# Altium integrated library ST Interface Display Driver.IntLib: 36 symbols
Pins are listed as number, name and electrical type; pins without a type are passive.

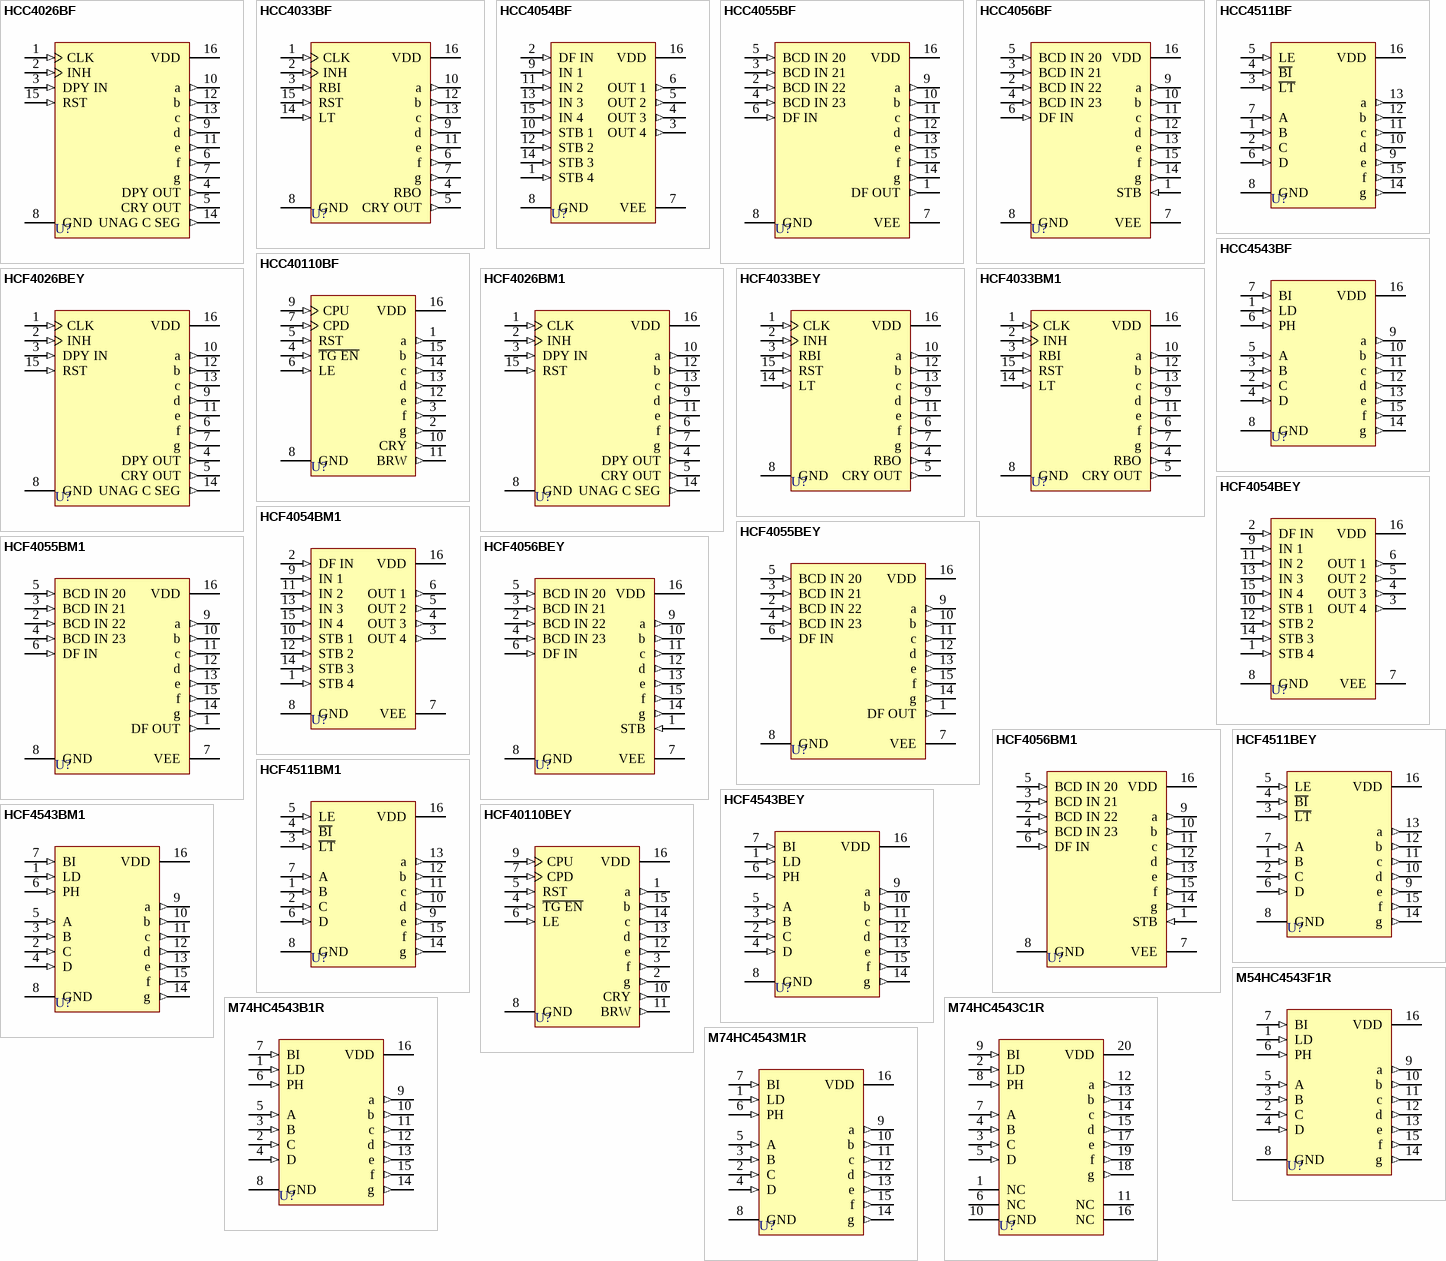
[diagram p0: symbols HCC4026BF to M74HC4543M1R]

## HCC4026BF
designator U?
Decade Counter / Divider with Decoded 7-Segment Display Output; Published: 8-Jun-2000; LatestRevisionDate: 17-Jul-2002; LatestRevisionNote: Re-released for DXP Platform.; DatasheetDocument: Sep-1988; PackageDocument: Apr-1996; PackageReference: DIP16; Publisher: Altium Limited
footprint DIP16 (DIP; 16 Leads; Row Spacing 7.62 mm; Pitch 2.54 mm)
pins: 1 CLK (in), 2 INH (in), 3 DPY IN (in), 4 DPY OUT (out), 5 CRY OUT (out), 6 f (out), 7 g (out), 8 GND (power), 9 d (out), 10 a (out), 11 e (out), 12 b (out), 13 c (out), 14 UNAG C SEG (out), 15 RST (in), 16 VDD (power)

## HCC4033BF
designator U?
Decade Counter / Divider with Decoded 7-Segment Display Output; Published: 8-Jun-2000; LatestRevisionDate: 17-Jul-2002; LatestRevisionNote: Re-released for DXP Platform.; DatasheetDocument: Sep-1988; PackageDocument: Apr-1996; PackageReference: DIP16; Publisher: Altium Limited
footprint DIP16 (DIP; 16 Leads; Row Spacing 7.62 mm; Pitch 2.54 mm)
pins: 1 CLK (in), 2 INH (in), 3 RBI (in), 4 RBO (out), 5 CRY OUT (out), 6 f (out), 7 g (out), 8 GND (power), 9 d (out), 10 a (out), 11 e (out), 12 b (out), 13 c (out), 14 LT (in), 15 RST (in), 16 VDD (power)

## HCC4054BF
designator U?
Liquid-Crystal Display Driver; Published: 8-Jun-2000; LatestRevisionDate: 17-Jul-2002; LatestRevisionNote: Re-released for DXP Platform.; DatasheetDocument: Mar-1999; PackageDocument: Apr-1996; PackageReference: DIP16; Publisher: Altium Limited
footprint DIP16 (DIP; 16 Leads; Row Spacing 7.62 mm; Pitch 2.54 mm)
pins: 1 STB 4 (in), 2 DF IN (in), 3 OUT 4 (out), 4 OUT 3 (out), 5 OUT 2 (out), 6 OUT 1 (out), 7 VEE (power), 8 GND (power), 9 IN 1 (in), 10 STB 1 (in), 11 IN 2 (in), 12 STB 2 (in), 13 IN 3 (in), 14 STB 3 (in), 15 IN 4 (in), 16 VDD (power)

## HCC4055BF
designator U?
Liquid-Crystal Display Driver; Published: 8-Jun-2000; LatestRevisionDate: 17-Jul-2002; LatestRevisionNote: Re-released for DXP Platform.; DatasheetDocument: Mar-1999; PackageDocument: Apr-1996; PackageReference: DIP16; Publisher: Altium Limited
footprint DIP16 (DIP; 16 Leads; Row Spacing 7.62 mm; Pitch 2.54 mm)
pins: 1 DF OUT (out), 2 BCD IN 22 (in), 3 BCD IN 21 (in), 4 BCD IN 23 (in), 5 BCD IN 20 (in), 6 DF IN (in), 7 VEE (power), 8 GND (power), 9 a (out), 10 b (out), 11 c (out), 12 d (out), 13 e (out), 14 g (out), 15 f (out), 16 VDD (power)

## HCC4056BF
designator U?
Liquid-Crystal Display Driver; Published: 8-Jun-2000; LatestRevisionDate: 17-Jul-2002; LatestRevisionNote: Re-released for DXP Platform.; DatasheetDocument: Mar-1999; PackageDocument: Apr-1996; PackageReference: DIP16; Publisher: Altium Limited
footprint DIP16 (DIP; 16 Leads; Row Spacing 7.62 mm; Pitch 2.54 mm)
pins: 1 STB (in), 2 BCD IN 22 (in), 3 BCD IN 21 (in), 4 BCD IN 23 (in), 5 BCD IN 20 (in), 6 DF IN (in), 7 VEE (power), 8 GND (power), 9 a (out), 10 b (out), 11 c (out), 12 d (out), 13 e (out), 14 g (out), 15 f (out), 16 VDD (power)

## HCC4511BF
designator U?
Liquid-Crystal Display Driver; Published: 8-Jun-2000; LatestRevisionDate: 17-Jul-2002; LatestRevisionNote: Re-released for DXP Platform.; DatasheetDocument: Mar-1999; PackageDocument: Apr-1996; PackageReference: DIP16; Publisher: Altium Limited
footprint DIP16 (DIP; 16 Leads; Row Spacing 7.62 mm; Pitch 2.54 mm)
simulation model HCC4511 (SIMCODE)
pins: 1 B (in), 2 C (in), 3 ~{LT} (in), 4 ~{BI} (in), 5 LE (in), 6 D (in), 7 A (in), 8 GND (power), 9 e (out), 10 d (out), 11 c (out), 12 b (out), 13 a (out), 14 g (out), 15 f (out), 16 VDD (power)

## HCC4543BF
designator U?
Liquid-Crystal Display Driver; Published: 8-Jun-2000; LatestRevisionDate: 17-Jul-2002; LatestRevisionNote: Re-released for DXP Platform.; DatasheetDocument: Mar-1999; PackageDocument: Apr-1996; PackageReference: DIP16; Publisher: Altium Limited
footprint DIP16 (DIP; 16 Leads; Row Spacing 7.62 mm; Pitch 2.54 mm)
simulation model HCC4543 (SIMCODE)
pins: 1 LD (in), 2 C (in), 3 B (in), 4 D (in), 5 A (in), 6 PH (in), 7 BI (in), 8 GND (power), 9 a (out), 10 b (out), 11 c (out), 12 d (out), 13 e (out), 14 g (out), 15 f (out), 16 VDD (power)

## HCC40110BF
designator U?
Decade Up-Down Counter / Decoder / Latch / Driver; Published: 8-Jun-2000; LatestRevisionDate: 17-Jul-2002; LatestRevisionNote: Re-released for DXP Platform.; DatasheetDocument: Sep-1988; PackageDocument: Apr-1996; PackageReference: DIP16; Publisher: Altium Limited
footprint DIP16 (DIP; 16 Leads; Row Spacing 7.62 mm; Pitch 2.54 mm)
pins: 1 a (out), 2 g (out), 3 f (out), 4 ~{TG EN} (in), 5 RST (in), 6 LE (in), 7 CPD (in), 8 GND (power), 9 CPU (in), 10 CRY (out), 11 BRW (out), 12 e (out), 13 d (out), 14 c (out), 15 b (out), 16 VDD (power)

## HCF4026BEY
designator U?
Decade Counter / Divider with Decoded 7-Segment Display Output; Published: 8-Jun-2000; LatestRevisionDate: 17-Jul-2002; LatestRevisionNote: Re-released for DXP Platform.; DatasheetDocument: Sep-1988; PackageDocument: Apr-1996; PackageReference: DIP16; Publisher: Altium Limited
footprint DIP16 (DIP; 16 Leads; Row Spacing 7.62 mm; Pitch 2.54 mm)
pins: 1 CLK (in), 2 INH (in), 3 DPY IN (in), 4 DPY OUT (out), 5 CRY OUT (out), 6 f (out), 7 g (out), 8 GND (power), 9 d (out), 10 a (out), 11 e (out), 12 b (out), 13 c (out), 14 UNAG C SEG (out), 15 RST (in), 16 VDD (power)

## HCF4026BM1
designator U?
Decade Counter / Divider with Decoded 7-Segment Display Output; Published: 8-Jun-2000; LatestRevisionDate: 17-Jul-2002; LatestRevisionNote: Re-released for DXP Platform.; DatasheetDocument: Sep-1988; PackageDocument: May-1998; PackageReference: SO16; Publisher: Altium Limited
footprint SO16 (Small Outline; 16 Leads; Body Width 3.9 mm; Pitch 1.27 mm)
pins: 1 CLK (in), 2 INH (in), 3 DPY IN (in), 4 DPY OUT (out), 5 CRY OUT (out), 6 f (out), 7 g (out), 8 GND (power), 9 d (out), 10 a (out), 11 e (out), 12 b (out), 13 c (out), 14 UNAG C SEG (out), 15 RST (in), 16 VDD (power)

## HCF4033BEY
designator U?
Decade Counter / Divider with Decoded 7-Segment Display Output; Published: 8-Jun-2000; LatestRevisionDate: 17-Jul-2002; LatestRevisionNote: Re-released for DXP Platform.; DatasheetDocument: Sep-1988; PackageDocument: Apr-1996; PackageReference: DIP16; Publisher: Altium Limited
footprint DIP16 (DIP; 16 Leads; Row Spacing 7.62 mm; Pitch 2.54 mm)
pins: 1 CLK (in), 2 INH (in), 3 RBI (in), 4 RBO (out), 5 CRY OUT (out), 6 f (out), 7 g (out), 8 GND (power), 9 d (out), 10 a (out), 11 e (out), 12 b (out), 13 c (out), 14 LT (in), 15 RST (in), 16 VDD (power)

## HCF4033BM1
designator U?
Decade Counter / Divider with Decoded 7-Segment Display Output; Published: 8-Jun-2000; LatestRevisionDate: 17-Jul-2002; LatestRevisionNote: Re-released for DXP Platform.; DatasheetDocument: Sep-1988; PackageDocument: May-1998; PackageReference: SO16; Publisher: Altium Limited
footprint SO16 (Small Outline; 16 Leads; Body Width 3.9 mm; Pitch 1.27 mm)
pins: 1 CLK (in), 2 INH (in), 3 RBI (in), 4 RBO (out), 5 CRY OUT (out), 6 f (out), 7 g (out), 8 GND (power), 9 d (out), 10 a (out), 11 e (out), 12 b (out), 13 c (out), 14 LT (in), 15 RST (in), 16 VDD (power)

## HCF4054BEY
designator U?
Liquid-Crystal Display Driver; Published: 8-Jun-2000; LatestRevisionDate: 17-Jul-2002; LatestRevisionNote: Re-released for DXP Platform.; DatasheetDocument: Mar-1999; PackageDocument: May-1998; PackageReference: SO16; Publisher: Altium Limited
footprint SO16 (Small Outline; 16 Leads; Body Width 3.9 mm; Pitch 1.27 mm)
pins: 1 STB 4 (in), 2 DF IN (in), 3 OUT 4 (out), 4 OUT 3 (out), 5 OUT 2 (out), 6 OUT 1 (out), 7 VEE (power), 8 GND (power), 9 IN 1 (in), 10 STB 1 (in), 11 IN 2 (in), 12 STB 2 (in), 13 IN 3 (in), 14 STB 3 (in), 15 IN 4 (in), 16 VDD (power)

## HCF4054BM1
designator U?
Liquid-Crystal Display Driver; Published: 8-Jun-2000; LatestRevisionDate: 17-Jul-2002; LatestRevisionNote: Re-released for DXP Platform.; DatasheetDocument: Mar-1999; PackageDocument: May-1998; PackageReference: SO16; Publisher: Altium Limited
footprint SO16 (Small Outline; 16 Leads; Body Width 3.9 mm; Pitch 1.27 mm)
pins: 1 STB 4 (in), 2 DF IN (in), 3 OUT 4 (out), 4 OUT 3 (out), 5 OUT 2 (out), 6 OUT 1 (out), 7 VEE (power), 8 GND (power), 9 IN 1 (in), 10 STB 1 (in), 11 IN 2 (in), 12 STB 2 (in), 13 IN 3 (in), 14 STB 3 (in), 15 IN 4 (in), 16 VDD (power)

## HCF4055BEY
designator U?
Liquid-Crystal Display Driver; Published: 8-Jun-2000; LatestRevisionDate: 17-Jul-2002; LatestRevisionNote: Re-released for DXP Platform.; DatasheetDocument: Mar-1999; PackageDocument: May-1998; PackageReference: SO16; Publisher: Altium Limited
footprint SO16 (Small Outline; 16 Leads; Body Width 3.9 mm; Pitch 1.27 mm)
pins: 1 DF OUT (out), 2 BCD IN 22 (in), 3 BCD IN 21 (in), 4 BCD IN 23 (in), 5 BCD IN 20 (in), 6 DF IN (in), 7 VEE (power), 8 GND (power), 9 a (out), 10 b (out), 11 c (out), 12 d (out), 13 e (out), 14 g (out), 15 f (out), 16 VDD (power)

## HCF4055BM1
designator U?
Liquid-Crystal Display Driver; Published: 8-Jun-2000; LatestRevisionDate: 17-Jul-2002; LatestRevisionNote: Re-released for DXP Platform.; DatasheetDocument: Mar-1999; PackageDocument: May-1998; PackageReference: SO16; Publisher: Altium Limited
footprint SO16 (Small Outline; 16 Leads; Body Width 3.9 mm; Pitch 1.27 mm)
pins: 1 DF OUT (out), 2 BCD IN 22 (in), 3 BCD IN 21 (in), 4 BCD IN 23 (in), 5 BCD IN 20 (in), 6 DF IN (in), 7 VEE (power), 8 GND (power), 9 a (out), 10 b (out), 11 c (out), 12 d (out), 13 e (out), 14 g (out), 15 f (out), 16 VDD (power)

## HCF4056BEY
designator U?
Liquid-Crystal Display Driver; Published: 8-Jun-2000; LatestRevisionDate: 17-Jul-2002; LatestRevisionNote: Re-released for DXP Platform.; DatasheetDocument: Mar-1999; PackageDocument: Apr-1996; PackageReference: DIP16; Publisher: Altium Limited
footprint DIP16 (DIP; 16 Leads; Row Spacing 7.62 mm; Pitch 2.54 mm)
pins: 1 STB (in), 2 BCD IN 22 (in), 3 BCD IN 21 (in), 4 BCD IN 23 (in), 5 BCD IN 20 (in), 6 DF IN (in), 7 VEE (power), 8 GND (power), 9 a (out), 10 b (out), 11 c (out), 12 d (out), 13 e (out), 14 g (out), 15 f (out), 16 VDD (power)

## HCF4056BM1
designator U?
Liquid-Crystal Display Driver; Published: 8-Jun-2000; LatestRevisionDate: 17-Jul-2002; LatestRevisionNote: Re-released for DXP Platform.; DatasheetDocument: Mar-1999; PackageDocument: May-1998; PackageReference: SO16; Publisher: Altium Limited
footprint SO16 (Small Outline; 16 Leads; Body Width 3.9 mm; Pitch 1.27 mm)
pins: 1 STB (in), 2 BCD IN 22 (in), 3 BCD IN 21 (in), 4 BCD IN 23 (in), 5 BCD IN 20 (in), 6 DF IN (in), 7 VEE (power), 8 GND (power), 9 a (out), 10 b (out), 11 c (out), 12 d (out), 13 e (out), 14 g (out), 15 f (out), 16 VDD (power)

## HCF4511BEY
designator U?
Liquid-Crystal Display Driver; Published: 8-Jun-2000; LatestRevisionDate: 17-Jul-2002; LatestRevisionNote: Re-released for DXP Platform.; DatasheetDocument: Mar-1999; PackageDocument: Apr-1996; PackageReference: DIP16; Publisher: Altium Limited
footprint DIP16 (DIP; 16 Leads; Row Spacing 7.62 mm; Pitch 2.54 mm)
simulation model HCF4511 (SIMCODE)
pins: 1 B (in), 2 C (in), 3 ~{LT} (in), 4 ~{BI} (in), 5 LE (in), 6 D (in), 7 A (in), 8 GND (power), 9 e (out), 10 d (out), 11 c (out), 12 b (out), 13 a (out), 14 g (out), 15 f (out), 16 VDD (power)

## HCF4511BM1
designator U?
Liquid-Crystal Display Driver; Published: 8-Jun-2000; LatestRevisionDate: 17-Jul-2002; LatestRevisionNote: Re-released for DXP Platform.; DatasheetDocument: Mar-1999; PackageDocument: May-1998; PackageReference: SO16; Publisher: Altium Limited
footprint SO16 (Small Outline; 16 Leads; Body Width 3.9 mm; Pitch 1.27 mm)
simulation model HCF4511 (SIMCODE)
pins: 1 B (in), 2 C (in), 3 ~{LT} (in), 4 ~{BI} (in), 5 LE (in), 6 D (in), 7 A (in), 8 GND (power), 9 e (out), 10 d (out), 11 c (out), 12 b (out), 13 a (out), 14 g (out), 15 f (out), 16 VDD (power)

## HCF4543BEY
designator U?
Liquid-Crystal Display Driver; Published: 8-Jun-2000; LatestRevisionDate: 17-Jul-2002; LatestRevisionNote: Re-released for DXP Platform.; DatasheetDocument: Mar-1999; PackageDocument: Apr-1996; PackageReference: DIP16; Publisher: Altium Limited
footprint DIP16 (DIP; 16 Leads; Row Spacing 7.62 mm; Pitch 2.54 mm)
simulation model HCF4543 (SIMCODE)
pins: 1 LD (in), 2 C (in), 3 B (in), 4 D (in), 5 A (in), 6 PH (in), 7 BI (in), 8 GND (power), 9 a (out), 10 b (out), 11 c (out), 12 d (out), 13 e (out), 14 g (out), 15 f (out), 16 VDD (power)

## HCF4543BM1
designator U?
Liquid-Crystal Display Driver; Published: 8-Jun-2000; LatestRevisionDate: 17-Jul-2002; LatestRevisionNote: Re-released for DXP Platform.; DatasheetDocument: Mar-1999; PackageDocument: May-1998; PackageReference: SO16; Publisher: Altium Limited
footprint SO16 (Small Outline; 16 Leads; Body Width 3.9 mm; Pitch 1.27 mm)
simulation model HCF4543 (SIMCODE)
pins: 1 LD (in), 2 C (in), 3 B (in), 4 D (in), 5 A (in), 6 PH (in), 7 BI (in), 8 GND (power), 9 a (out), 10 b (out), 11 c (out), 12 d (out), 13 e (out), 14 g (out), 15 f (out), 16 VDD (power)

## HCF40110BEY
designator U?
Decade Up-Down Counter / Decoder / Latch / Driver; Published: 8-Jun-2000; LatestRevisionDate: 17-Jul-2002; LatestRevisionNote: Re-released for DXP Platform.; DatasheetDocument: Sep-1988; PackageDocument: Apr-1996; PackageReference: DIP16; Publisher: Altium Limited
footprint DIP16 (DIP; 16 Leads; Row Spacing 7.62 mm; Pitch 2.54 mm)
pins: 1 a (out), 2 g (out), 3 f (out), 4 ~{TG EN} (in), 5 RST (in), 6 LE (in), 7 CPD (in), 8 GND (power), 9 CPU (in), 10 CRY (out), 11 BRW (out), 12 e (out), 13 d (out), 14 c (out), 15 b (out), 16 VDD (power)

## M54HC4543F1R
designator U?
BCD to 7 Segment Latch / Decoder/  LCD Driver; Published: 8-Jun-2000; LatestRevisionDate: 17-Jul-2002; LatestRevisionNote: Re-released for DXP Platform.; DatasheetDocument: Feb-1993; PackageDocument: Apr-1996; PackageReference: DIP16; Publisher: Altium Limited
footprint DIP16 (DIP; 16 Leads; Row Spacing 7.62 mm; Pitch 2.54 mm)
signal-integrity model M54HC4543F1R
pins: 1 LD (in), 2 C (in), 3 B (in), 4 D (in), 5 A (in), 6 PH (in), 7 BI (in), 8 GND (power), 9 a (out), 10 b (out), 11 c (out), 12 d (out), 13 e (out), 14 g (out), 15 f (out), 16 VDD (power)

## M74HC4543B1R
designator U?
BCD to 7 Segment Latch / Decoder/  LCD Driver; Published: 8-Jun-2000; LatestRevisionDate: 17-Jul-2002; LatestRevisionNote: Re-released for DXP Platform.; DatasheetDocument: Feb-1993; PackageDocument: Apr-1996; PackageReference: DIP16; Publisher: Altium Limited
footprint DIP16 (DIP; 16 Leads; Row Spacing 7.62 mm; Pitch 2.54 mm)
signal-integrity model M74HC4543B1R
pins: 1 LD (in), 2 C (in), 3 B (in), 4 D (in), 5 A (in), 6 PH (in), 7 BI (in), 8 GND (power), 9 a (out), 10 b (out), 11 c (out), 12 d (out), 13 e (out), 14 g (out), 15 f (out), 16 VDD (power)

## M74HC4543C1R
designator U?
BCD to 7 Segment Latch / Decoder/  LCD Driver; Published: 8-Jun-2000; LatestRevisionDate: 17-Jul-2002; LatestRevisionNote: Re-released for DXP Platform.; DatasheetDocument: Feb-1993; PackageDocument: Mar-1992; PackageReference: PLCC20; Publisher: Altium Limited
footprint PLCC20 (Leaded Chip Carrier; 20 Leads; Body 9 x 9 mm)
signal-integrity model M74HC4543C1R
pins: 1 NC, 2 LD (in), 3 C (in), 4 B (in), 5 D (in), 6 NC, 7 A (in), 8 PH (in), 9 BI (in), 10 GND (power), 11 NC, 12 a (out), 13 b (out), 14 c (out), 15 d (out), 16 NC, 17 e (out), 18 g (out), 19 f (out), 20 VDD (power)

## M74HC4543M1R
designator U?
BCD to 7 Segment Latch / Decoder/  LCD Driver; Published: 8-Jun-2000; LatestRevisionDate: 17-Jul-2002; LatestRevisionNote: Re-released for DXP Platform.; DatasheetDocument: Feb-1993; PackageDocument: May-1998; PackageReference: SO16; Publisher: Altium Limited
footprint SO16 (Small Outline; 16 Leads; Body Width 3.9 mm; Pitch 1.27 mm)
signal-integrity model M74HC4543M1R
pins: 1 LD (in), 2 C (in), 3 B (in), 4 D (in), 5 A (in), 6 PH (in), 7 BI (in), 8 GND (power), 9 a (out), 10 b (out), 11 c (out), 12 d (out), 13 e (out), 14 g (out), 15 f (out), 16 VDD (power)

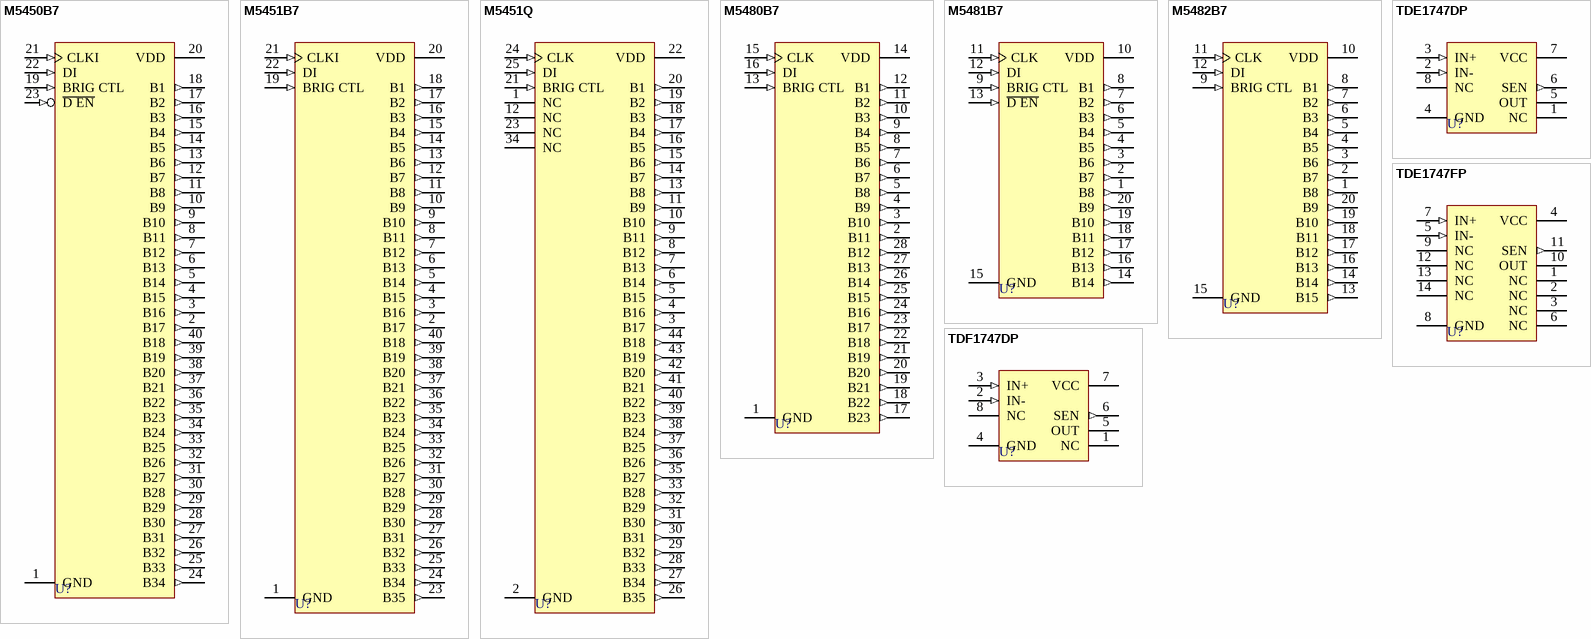
[diagram p1: symbols M5450B7 to TDF1747DP]

## M5450B7
designator U?
LED Display Driver; Published: 8-Jun-2000; LatestRevisionDate: 17-Jul-2002; LatestRevisionNote: Re-released for DXP Platform.; DatasheetDocument: Sep-1993; PackageDocument: Jun-1998; PackageReference: PDIP40; Publisher: Altium Limited
footprint PDIP40 (DIP, Plastic; 40 Leads; Row Spacing 15.24 mm; Pitch 2.54 mm)
pins: 1 GND (power), 2 B17 (out), 3 B16 (out), 4 B15 (out), 5 B14 (out), 6 B13 (out), 7 B12 (out), 8 B11 (out), 9 B10 (out), 10 B9 (out), 11 B8 (out), 12 B7 (out), 13 B6 (out), 14 B5 (out), 15 B4 (out), 16 B3 (out), 17 B2 (out), 18 B1 (out), 19 BRIG CTL (in), 20 VDD (power), 21 CLKI (in), 22 DI (in), 23 ~{D EN} (in), 24 B34 (out), 25 B33 (out), 26 B32 (out), 27 B31 (out), 28 B30 (out), 29 B29 (out), 30 B28 (out), 31 B27 (out), 32 B26 (out), 33 B25 (out), 34 B24 (out), 35 B23 (out), 36 B22 (out), 37 B21 (out), 38 B20 (out), 39 B19 (out), 40 B18 (out)

## M5451B7
designator U?
LED Display Driver; Published: 8-Jun-2000; LatestRevisionDate: 17-Jul-2002; LatestRevisionNote: Re-released for DXP Platform.; DatasheetDocument: Sep-1993; PackageDocument: Jun-1998; PackageReference: PDIP40; Publisher: Altium Limited
footprint PDIP40 (DIP, Plastic; 40 Leads; Row Spacing 15.24 mm; Pitch 2.54 mm)
pins: 1 GND (power), 2 B17 (out), 3 B16 (out), 4 B15 (out), 5 B14 (out), 6 B13 (out), 7 B12 (out), 8 B11 (out), 9 B10 (out), 10 B9 (out), 11 B8 (out), 12 B7 (out), 13 B6 (out), 14 B5 (out), 15 B4 (out), 16 B3 (out), 17 B2 (out), 18 B1 (out), 19 BRIG CTL (in), 20 VDD (power), 21 CLKI (in), 22 DI (in), 23 B35 (out), 24 B34 (out), 25 B33 (out), 26 B32 (out), 27 B31 (out), 28 B30 (out), 29 B29 (out), 30 B28 (out), 31 B27 (out), 32 B26 (out), 33 B25 (out), 34 B24 (out), 35 B23 (out), 36 B22 (out), 37 B21 (out), 38 B20 (out), 39 B19 (out), 40 B18 (out)

## M5451Q
designator U?
LED Display Driver; Published: 8-Jun-2000; LatestRevisionDate: 17-Jul-2002; LatestRevisionNote: Re-released for DXP Platform.; DatasheetDocument: Sep-1993; PackageDocument: Feb-1997; PackageReference: PLCC44A; Publisher: Altium Limited; Code_IPC: PLCC-44
footprint PLCC44A (Leaded Chip Carrier; 44 Leads; Body 16.5 x 16.5 mm)
pins: 1 NC, 2 GND (power), 3 B17 (out), 4 B16 (out), 5 B15 (out), 6 B14 (out), 7 B13 (out), 8 B12 (out), 9 B11 (out), 10 B10 (out), 11 B9 (out), 12 NC, 13 B8 (out), 14 B7 (out), 15 B6 (out), 16 B5 (out), 17 B4 (out), 18 B3 (out), 19 B2 (out), 20 B1 (out), 21 BRIG CTL (in), 22 VDD (power), 23 NC, 24 CLK (in), 25 DI (in), 26 B35 (out), 27 B34 (out), 28 B33 (out), 29 B32 (out), 30 B31 (out), 31 B30 (out), 32 B29 (out), 33 B28 (out), 34 NC, 35 B27 (out), 36 B26 (out), 37 B25 (out), 38 B24 (out), 39 B23 (out), 40 B22 (out), 41 B21 (out), 42 B20 (out), 43 B19 (out), 44 B18 (out)

## M5480B7
designator U?
LED Display Driver; Published: 8-Jun-2000; LatestRevisionDate: 17-Jul-2002; LatestRevisionNote: Re-released for DXP Platform.; DatasheetDocument: May-1993; PackageDocument: Jan-2003; PackageReference: PDIP28; Publisher: Altium Limited
footprint PDIP28 (DIP; 28 Leads; Row Spacing 15.24 mm; Pitch 2.54 mm)
pins: 1 GND (power), 2 B11 (out), 3 B10 (out), 4 B9 (out), 5 B8 (out), 6 B7 (out), 7 B6 (out), 8 B5 (out), 9 B4 (out), 10 B3 (out), 11 B2 (out), 12 B1 (out), 13 BRIG CTL (in), 14 VDD (power), 15 CLK (in), 16 DI (in), 17 B23 (out), 18 B22 (out), 19 B21 (out), 20 B20 (out), 21 B19 (out), 22 B18 (out), 23 B17 (out), 24 B16 (out), 25 B15 (out), 26 B14 (out), 27 B13 (out), 28 B12 (out)

## M5481B7
designator U?
LED Display Driver; Published: 8-Jun-2000; LatestRevisionDate: 17-Jul-2002; LatestRevisionNote: Re-released for DXP Platform.; DatasheetDocument: May-1993; PackageDocument: Jun-1998; PackageReference: DIP20; Publisher: Altium Limited; Code_JEDEC: MS-015-AE
footprint DIP20 (DIP; 20 Leads; Row Spacing 7.62 mm; Pitch 2.54 mm)
pins: 1 B8 (out), 2 B7 (out), 3 B6 (out), 4 B5 (out), 5 B4 (out), 6 B3 (out), 7 B2 (out), 8 B1 (out), 9 BRIG CTL (in), 10 VDD (power), 11 CLK (in), 12 DI (in), 13 ~{D EN} (in), 14 B14 (out), 15 GND (power), 16 B13 (out), 17 B12 (out), 18 B11 (out), 19 B10 (out), 20 B9 (out)

## M5482B7
designator U?
LED Display Driver; Published: 8-Jun-2000; LatestRevisionDate: 17-Jul-2002; LatestRevisionNote: Re-released for DXP Platform.; DatasheetDocument: May-1993; PackageDocument: Jun-1998; PackageReference: DIP20; Publisher: Altium Limited; Code_JEDEC: MS-015-AE
footprint DIP20 (DIP; 20 Leads; Row Spacing 7.62 mm; Pitch 2.54 mm)
pins: 1 B8 (out), 2 B7 (out), 3 B6 (out), 4 B5 (out), 5 B4 (out), 6 B3 (out), 7 B2 (out), 8 B1 (out), 9 BRIG CTL (in), 10 VDD (power), 11 CLK (in), 12 DI (in), 13 B15 (out), 14 B14 (out), 15 GND (power), 16 B13 (out), 17 B12 (out), 18 B11 (out), 19 B10 (out), 20 B9 (out)

## TDE1747DP
designator U?
Interface Circuit-Relay and Lamp-Driver; Published: 8-Jun-2000; LatestRevisionDate: 17-Jul-2002; LatestRevisionNote: Re-released for DXP Platform.; DatasheetDocument: Nov-1991; PackageReference: DIP8; Publisher: Altium Limited; Code_JEDEC: MO-001-AN
footprint DIP8 (DIP; 8 Leads; Row Spacing 7.62 mm; Pitch 2.54 mm)
pins: 1 NC, 2 IN- (in), 3 IN+ (in), 4 GND (power), 5 OUT (oe), 6 SEN (out), 7 VCC (power), 8 NC

## TDE1747FP
designator U?
Interface Circuit-Relay and Lamp-Driver; Published: 8-Jun-2000; LatestRevisionDate: 17-Jul-2002; LatestRevisionNote: Re-released for DXP Platform.; DatasheetDocument: Nov-1991; PackageDocument: Sep-1998; PackageReference: SO14; Publisher: Altium Limited
footprint SO14 (Small Outline; 14 Leads; Body Width 3.9 mm; Pitch 1.27 mm)
pins: 1 NC, 2 NC, 3 NC, 4 VCC (power), 5 IN- (in), 6 NC, 7 IN+ (in), 8 GND (power), 9 NC, 10 OUT (oe), 11 SEN (out), 12 NC, 13 NC, 14 NC

## TDF1747DP
designator U?
Interface Circuit-Relay and Lamp-Driver; Published: 8-Jun-2000; LatestRevisionDate: 17-Jul-2002; LatestRevisionNote: Re-released for DXP Platform.; DatasheetDocument: Nov-1991; PackageReference: DIP8; Publisher: Altium Limited; Code_JEDEC: MO-001-AN
footprint DIP8 (DIP; 8 Leads; Row Spacing 7.62 mm; Pitch 2.54 mm)
pins: 1 NC, 2 IN- (in), 3 IN+ (in), 4 GND (power), 5 OUT (oe), 6 SEN (out), 7 VCC (power), 8 NC